# Altium footprint library libreriaPcb.PcbLib: 683 footprints (part 16 of 44)
Each footprint in its own frame and in the unit in brackets; x right, y up, seen from the top. Pads: shape width x height; smd on the part's side, far side on the other; paste and mask are expansions set on the pad; w line width, h text height; cw(c..) or ccw(c..) is an arc to the next point about the centre after c.
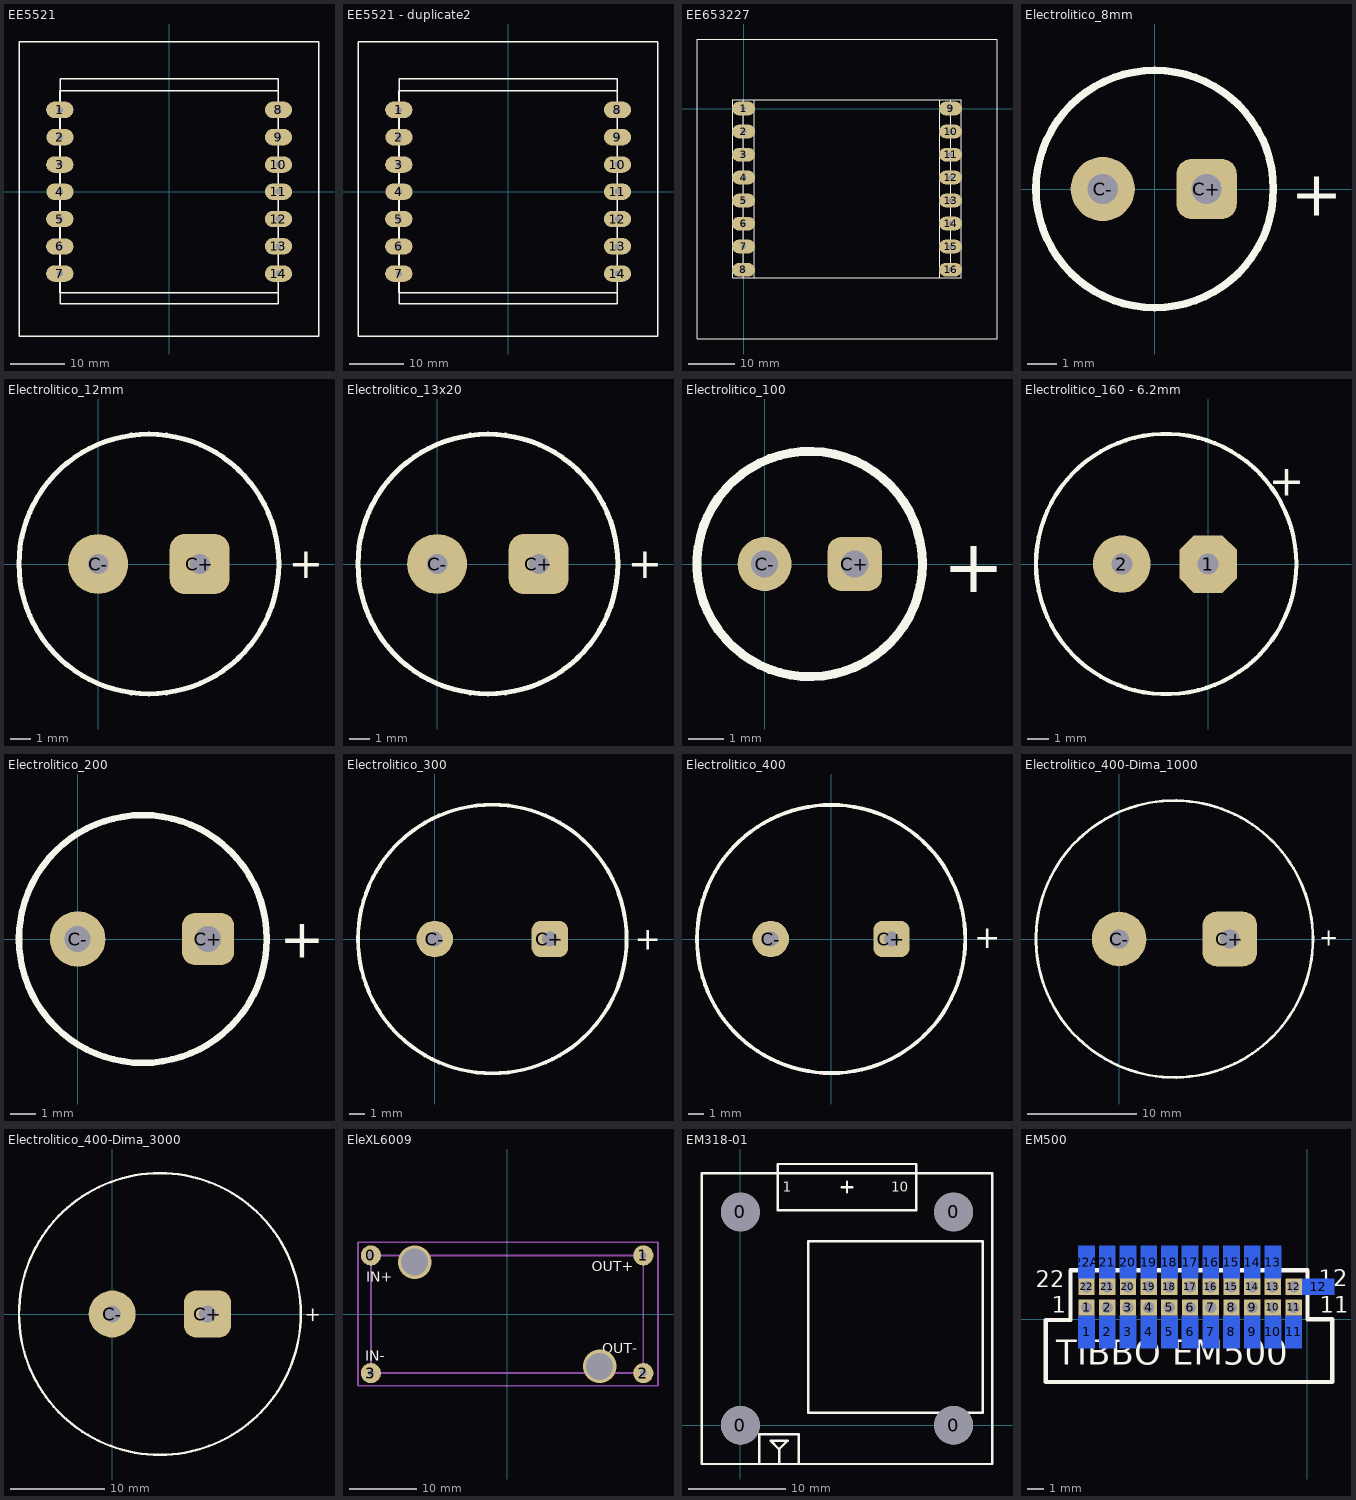
[diagram p15: the footprints below, top view; thin cyan lines are the x and y axes]

## EE5521 [mm]
pads (14):
  oval 5x3 hole 1.1: 1(-20.025,15) 2(-20.005,10) 3(-20.025,4.97) 4(-20.005,0) 5(-20.025,-5) 6(-20.025,-10.03) 7(-20.025,-15) 8(20.025,15) 9(20.025,10) 10(20.025,4.97) 11(20.025,0.005) 12(20.025,-5) 13(20.025,-10) 14(20.025,-15)
Top Overlay:
  lines w0.254: -27.505,-26.5 27.465,-26.5 27.465,27.5 -27.505,27.5 -27.505,-26.5 ; -20.025,-18.49 -20.025,18.5 20.025,18.5 20.025,-18.49 -20.025,-18.49 ; -19.965,-20.54 20.025,-20.54 20.025,20.74 -19.965,20.74 -19.965,-20.54

## EE5521 - duplicate2 [mm]
pads (14):
  oval 5x3 hole 1.1: 1(-20.025,15) 2(-20.005,10) 3(-20.025,4.97) 4(-20.005,0) 5(-20.025,-5) 6(-20.025,-10.03) 7(-20.025,-15) 8(20.025,15) 9(20.025,10) 10(20.025,4.97) 11(20.025,0.005) 12(20.025,-5) 13(20.025,-10) 14(20.025,-15)
Top Overlay:
  lines w0.254: -27.505,-26.5 27.465,-26.5 27.465,27.5 -27.505,27.5 -27.505,-26.5 ; -20.025,-18.49 -20.025,18.5 20.025,18.5 20.025,-18.49 -20.025,-18.49 ; -19.965,-20.54 20.025,-20.54 20.025,20.74 -19.965,20.74 -19.965,-20.54
3D body: height 32, standoff 12, extent -23.355,-26.213 22.492,-17.882
3D body: height 32, standoff 12, extent -23.177,18.872 22.67,27.203
3D body: height 32, standoff 12, extent 22.484,-26.594 27.381,27.661
3D body: height 32, standoff 12, extent -27.986,-26.695 -23.089,27.559
3D body: height 40, standoff 0, extent -22.627,-16.602 -17.729,16.602
3D body: height 40, standoff 0, extent 17.302,-16.779 22.2,16.424
3D body: height 30, standoff 7, extent -17.628,-8.7 17.221,8.395
3D body: height 45, standoff 40, extent -22.565,12.675 -17.668,16.5
3D body: height 45, standoff 40, extent -22.703,-16.51 -17.805,-12.685
3D body: height 45, standoff 40, extent 17.363,12.54 22.261,16.365
3D body: height 45, standoff 40, extent 17.363,-16.891 22.261,-13.066
3D body: height 2, standoff 0, extent -21.025,14 -19.025,16
3D body: height 2, standoff 0, extent -21.005,9 -19.005,11
3D body: height 2, standoff 0, extent -21.32,3.547 -19.32,5.547
3D body: height 2, standoff 0, extent -21.005,-1 -19.005,1
3D body: height 2, standoff 0, extent -21.025,-6 -19.025,-4
3D body: height 2, standoff 0, extent -21.025,-11.03 -19.025,-9.03
3D body: height 2, standoff 0, extent 19.025,14 21.025,16
3D body: height 2, standoff 0, extent 19.025,9 21.025,11
3D body: height 2, standoff 0, extent 19.025,3.97 21.025,5.97
3D body: height 2, standoff 0, extent 19.025,-0.995 21.025,1.005
3D body: height 2, standoff 0, extent 19.025,-6 21.025,-4
3D body: height 2, standoff 0, extent 19.025,-11 21.025,-9
3D body: height 2, standoff 0, extent 19.025,-16 21.025,-14
3D body: height 2, standoff 0, extent -21.025,-16 -19.025,-14

## EE653227 [mm]
pads (16):
  oval 5x3 hole 1.1: 1(0,0) 2(0.02,-5) 3(0,-10.03) 4(0.02,-15) 5(0,-20) 6(0,-25.03) 7(0,-30) 8(-0.031,-35.055) 9(44.978,0) 10(44.978,-5) 11(44.978,-10.03) 12(44.978,-14.995) 13(44.978,-20) 14(44.978,-25) 15(44.978,-30) 16(44.978,-35.029)
Top Overlay:
  lines w0.254: -2.393,-32.496 -2.393,-36.814 -0.031,-36.814 ; 2.306,1.921 2.28,1.896 2.28,-36.788 -2.343,-36.788 -2.343,1.947 -0.031,1.947 ; 42.692,-36.814 42.692,1.947 ; 44.978,-33.49 44.978,1.947 44.978,-35.029 47.34,-35.029 47.34,1.947 41.184,1.947 -0.031,1.947 ; 47.34,-34.223 47.34,-36.814 43.193,-36.814 -0.031,-36.814 ; -0.031,-36.814 -0.031,1.947 ; -10.14,-50.066 -10.14,15.088 55.087,15.088 55.087,-50.066 -10.14,-50.066
3D body: height 2, standoff 0, extent -1,-31 1,-29
3D body: height 2, standoff 0, extent 43.978,-31 45.978,-29
3D body: height 2, standoff 0, extent 43.978,-26 45.978,-24
3D body: height 2, standoff 0, extent 43.978,-21 45.978,-19
3D body: height 2, standoff 0, extent 43.978,-15.995 45.978,-13.995
3D body: height 2, standoff 0, extent 43.978,-11.03 45.978,-9.03
3D body: height 2, standoff 0, extent 43.978,-6 45.978,-4
3D body: height 2, standoff 0, extent 43.978,-1 45.978,1
3D body: height 2, standoff 0, extent 0,-26.03 2,-24.03
3D body: height 2, standoff 0, extent 0,-21 2,-19
3D body: height 2, standoff 0, extent -1.031,-15.9 0.969,-13.9
3D body: height 2, standoff 0, extent -1,-11.03 1,-9.03
3D body: height 2, standoff 0, extent -0.98,-6 1.02,-4
3D body: height 2, standoff 0, extent -1,-1 1,1
3D body: height 58, standoff 40, extent 42.529,-36.942 47.426,-33.116
3D body: height 58, standoff 40, extent 42.316,-2.46 47.213,1.365
3D body: height 58, standoff 40, extent -2.48,-36.942 2.418,-33.116
3D body: height 58, standoff 40, extent -2.449,-1.913 2.449,1.913
3D body: height 44, standoff 13, extent 2.28,-26.095 42.174,-3.438
3D body: height 54, standoff 0, extent 42.255,-36.677 47.152,1.424
3D body: height 54, standoff 0, extent -2.516,-36.782 2.382,1.6
3D body: height 39, standoff 12, extent -10.039,-49.761 -2.566,14.859
3D body: height 39, standoff 12, extent 45.435,-49.837 54.909,14.859
3D body: height 39, standoff 12, extent -2.622,1.947 45.486,14.859
3D body: height 39, standoff 12, extent -2.597,-49.787 45.536,-34.062

## Electrolitico_8mm [mil]
pads (2):
  rrect50% 80x80 / inner round 0 / far side rrect50% 80x80 hole 40 paste+0: C+(68.9,0)
  round 85 / inner round 0 / far side round 85 hole 40 paste+0: C-(-68.9,0)
Top Overlay:
  circle w10: c0,0 r157.48
  text "+" at 180.51,-35.43 h60
3D body: height 40, standoff 0, extent -157.46,-157.46 157.46,157.46

## Electrolitico_12mm [mm]
pads (2):
  rrect50% 3x3 hole 1.016 paste+0: C+(5.08,0)
  round 3 hole 1.016 paste+0: C-(0,0)
Top Overlay:
  circle w0.254: c2.54,0 r6.5
  text "+" at 9.525,-0.725 h1.52
3D body: height 1.02, standoff 0, extent -3.959,-6.499 9.039,6.499

## Electrolitico_13x20 [mm]
pads (2):
  rrect50% 3x3 hole 1.016 paste+0: C+(5.08,0)
  round 3 hole 1.016 paste+0: C-(0,0)
Top Overlay:
  circle w0.254: c2.54,0 r6.5
  text "+" at 9.525,-0.725 h1.52
3D body: height 20, standoff 0, extent -4.089,-1.118 -3.607,1.68
3D body: height 20.2, standoff 0, extent -3.862,-6.298 8.638,6.197
3D body: height 20, standoff 0, extent -3.959,-6.499 9.039,6.499

## Electrolitico_100 [mil]
pads (2):
  rrect50% 60x60 / inner round 0 / far side rrect50% 60x60 hole 30 paste+0: C+(100,0)
  round 60 / inner round 0 / far side round 60 hole 30 paste+0: C-(0,0)
Top Overlay:
  circle w10: c50,0 r125
  text "+" at 197.83,-31.5 h60
3D body: height 400, standoff 0, extent -74.98,-124.98 174.98,124.98

## Electrolitico_160 - 6.2mm [mm]
pads (2):
  oct 2.75x2.75 hole 1: 1(0,0)
  round 2.75 hole 1: 2(-4.118,0)
Top Overlay:
  circle w0.2: c-1.999,0.006 r6.214
  text "+" at 4.605,4.533 h1.5
3D body: height 1.02, standoff 0, extent -8.213,-6.207 4.214,6.219

## Electrolitico_200 [mil]
pads (2):
  rrect50% 80x80 / inner round 0 / far side rrect50% 80x80 hole 40 paste+0: C+(200,0)
  round 85 / inner round 0 / far side round 85 hole 40 paste+0: C-(0,0)
Top Overlay:
  circle w10: c100,0 r190
  text "+" at 310.04,-28.54 h60
3D body: height 826.77, standoff 0, extent -89.98,-189.98 289.98,189.98
3D body: height 834.65, standoff 0, extent -85.04,-186.08 285.04,184
3D body: height 826.77, standoff 0, extent -96.13,-42 -80,32

## Electrolitico_300 [mil]
pads (2):
  rrect50% 95x95 / inner round 0 / far side rrect50% 95x95 hole 40 paste+0: C+(300,0)
  round 95 / inner round 0 / far side round 95 hole 40 paste+0: C-(0,0)
Top Overlay:
  circle w10: c150,0 r350
  text "+" at 521.65,-28.54 h60
3D body: height 1377.95, standoff 0, extent -199.98,-349.98 499.98,349.98

## Electrolitico_400 [mil]
pads (2):
  rrect50% 95x95 / inner round 0 / far side rrect50% 95x95 hole 40 paste+0: C+(157.48,0)
  round 95 / inner round 0 / far side round 95 hole 40 paste+0: C-(-157.48,0)
Top Overlay:
  circle w10: c0,0 r350
  text "+" at 372.83,-24.61 h60
3D body: height 1377.95, standoff 0, extent -349.98,-349.98 349.98,349.98

## Electrolitico_400-Dima_1000 [mm]
pads (2):
  rrect50% 5x5 hole 1.778 paste+0: C+(10.16,0)
  round 5 hole 1.778 paste+0: C-(0,0)
Top Overlay:
  circle w0.254: c5.08,0 r12.7
  text "+" at 18.375,-0.625 h1.52
3D body: height 35, standoff 0, extent -7.619,-12.699 17.779,12.699

## Electrolitico_400-Dima_3000 [mm]
pads (2):
  rrect50% 5x5 hole 1.778 paste+0: C+(10.16,0)
  round 5 hole 1.778 paste+0: C-(0,0)
Top Overlay:
  circle w0.254: c5.08,0 r15
  text "+" at 20.5,-0.775 h1.52
3D body: height 35, standoff 0, extent -9.919,-14.999 20.079,14.999

## EleXL6009 [mm]
pads (4):
  round 3 hole 1: 0(-20.262,8.75) 1(20.262,8.75) 2(20.262,-8.75) 3(-20.262,-8.75)
via 13.762,-7.75 diameter 5 hole 4
via -13.762,7.75 diameter 5 hole 4
Top Overlay:
  text "OUT-" at 14.113,-5.775 h1.52
  text "OUT+" at 12.562,6.4 h1.52
  text "IN-" at -21.087,-6.95 h1.52
  text "IN+" at -20.987,4.825 h1.52
Mechanical 1:
  lines w0.254: -22.187,-10.625 -22.187,10.7 -20.312,10.7 22.438,10.7 22.438,-10.625 -22.187,-10.625 ; -20.262,-8.75 20.262,-8.75 20.262,8.75 -20.262,8.75 -20.262,-8.75

## EM318-01 [mm] "Modulo GPS+Antena"
pads (4):
  round 4 hole 4: 0(0,0) 0(0,22) 0(22,0) 0(22,22)
Top Overlay:
  lines w0.254: 1.969,-4 1.969,-0.952 ; 2,-0.952 6.033,-0.952 6.033,-4 ; 4.001,-4 4.001,-2.476 ; 10.478,24.575 11,24.575 ; 11,24.053 11,24.575 ; 11,25.097 11,24.575 ; 11.522,24.575 11,24.575 ; 4.001,-2.476 3.112,-1.587 4.89,-1.587 4.001,-2.476 ; -4,-4 -4,26 26,26 26,-4 -4,-4 ; 3.875,22.2 18.125,22.2 18.125,26.95 3.875,26.95 3.875,22.2 ; 7,1.3 7,18.987 25,18.987 25,1.3 7,1.3
  text "10" at 15.558,24.067 h1
  text "1" at 4.382,24.067 h1

## EM500 [mm]
pads (44):
  rect 1x2 smd far side: 1(-13.55,-0.77) 2(-12.28,-0.77) 3(-11.01,-0.77) 4(-9.74,-0.77) 5(-8.47,-0.77) 6(-7.2,-0.77) 7(-5.93,-0.77) 8(-4.66,-0.77) 9(-3.39,-0.77) 10(-2.12,-0.77) 11(-0.85,-0.77) 13(-2.12,3.5) 14(-3.39,3.5) 15(-4.66,3.5) 16(-5.93,3.5) 17(-7.2,3.5) 18(-8.47,3.5) 19(-9.74,3.5) 20(-11.01,3.5) 21(-12.28,3.5) 22A(-13.55,3.5)
  rect 1x1 hole 0.7: 1(-13.55,0.73) 2(-12.28,0.73) 3(-11.01,0.73) 4(-9.74,0.73) 5(-8.47,0.73) 6(-7.2,0.73) 7(-5.93,0.73) 8(-4.66,0.73) 9(-3.39,0.73) 10(-2.12,0.73) 11(-0.85,0.73) 12(-0.85,2) 13(-2.12,2) 14(-3.39,2) 15(-4.66,2) 16(-5.93,2) 17(-7.2,2) 18(-8.47,2) 19(-9.74,2) 20(-11.01,2) 21(-12.28,2) 22(-13.55,2)
  rect 2x1 smd far side: 12(0.65,2)
Top Overlay:
  lines w0.254: -16.049,-3.842 1.524,-3.842 1.524,0.005 0,0.005 0,3.016 -14.525,3.016 -14.525,-0.045 -16.049,-0.045 -16.049,-3.842
  text "TIBBO EM500" at -15.4,-2.77 h1.52
  text "11" at 0.75,0.405 h1
  text "12" at 0.7,2.03 h1
  text "22" at -16.65,1.98 h1
  text "1" at -15.675,0.405 h1